# Altium footprint library Connector-SH.PcbLib: 1 footprints
Each footprint in its own frame and in the unit in brackets; x right, y up, seen from the top. Pads: shape width x height; smd on the part's side, far side on the other; paste and mask are expansions set on the pad; w line width, h text height; cw(c..) or ccw(c..) is an arc to the next point about the centre after c.
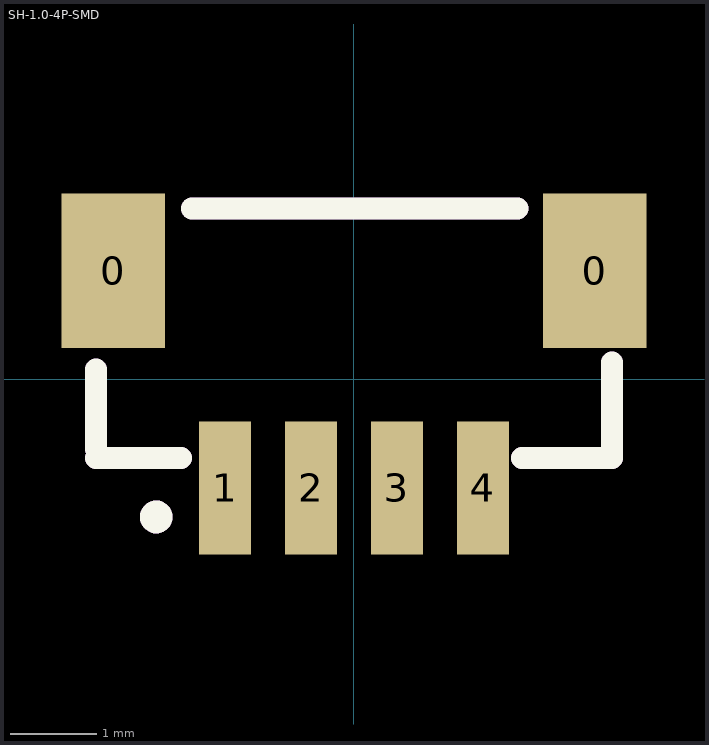
[diagram p0: the footprint, top view; thin cyan lines are the x and y axes]

## SH-1.0-4P-SMD [mm]
pads (6):
  rect 1.2x1.8 smd: 0(-2.8,1.263) 0(2.8,1.263)
  rect 0.6x1.55 smd: 1(-1.5,-1.262) 2(-0.5,-1.262) 3(0.5,-1.262) 4(1.5,-1.262)
Top Overlay:
  circle w0.254: c-2.3,-1.6 r0.063
  lines w0.254: -3,-0.912 -2.013,-0.912 ; -3,-0.812 -3,0.116 ; -1.887,1.988 1.901,1.988 ; 1.955,-0.912 3,-0.912 3,0.197
Top Value:
  text "'.Comment'" at -1.582,0.468 h1.2
Top Designator:
  text "'.Designator'" at -2.355,0.206 h1.5
Top Assembly (Mech20):
  circle w0.254: c-2.3,-1.6 r0.063
  lines w0.254: -3,-0.912 -2.013,-0.912 ; -3,-0.812 -3,0.116 ; -1.887,1.988 1.901,1.988 ; 1.955,-0.912 3,-0.912 3,0.197
3D body "BM04B-SRSS-TB_LF__SN_.stp": height 4.35, standoff 0, extent -3.001,-1.556 2.999,2.044